# EAGLE library part 74HC4046AN,652 (library NXP_By_element14_Batch_1)
Phase-locked-loop with VCO
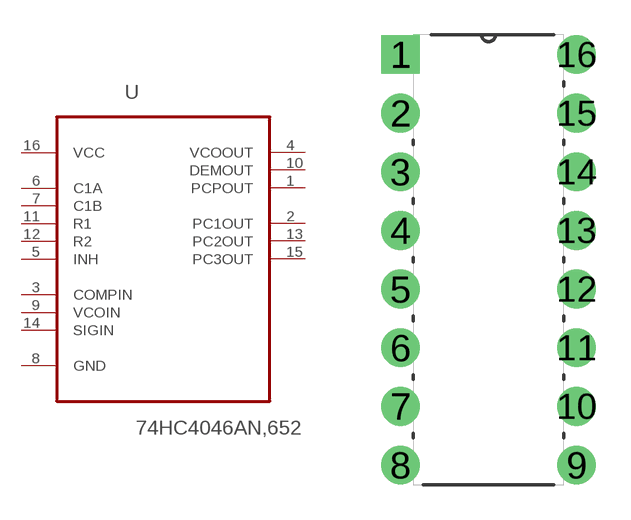
[diagram p94: symbol with the pads of DIP254P762X420-16; footprint DIP254P762X420-16]

Designator prefix U

## 74HC4046AN,652 (MPN: 74HC4046AN,652; OC_FARNELL: -;; OC_NEWARK: 71R2488';; P1I: o; PACKAGE: DIP-16; SUPPLIER: NXP)  [DIP254P762X420-16]
1  PCPOUT  out
2  PC1OUT  out
3  COMPIN  in
4  VCOOUT  out
5  INH  in
6  C1A  in
7  C1B  in
8  GND  pas
9  VCOIN  in
10  DEMOUT  out
11  R1  in
12  R2  in
13  PC2OUT  out
14  SIGIN  in
15  PC3OUT  out
16  VCC  pwr

## Footprint DIP254P762X420-16 (pad centres in mm)
drill 1.118 square: 1 -7.62,17.78
drill 1.118: 2 -7.62,15.24; 3 -7.62,12.7; 4 -7.62,10.16; 5 -7.62,7.62; 6 -7.62,5.08; 7 -7.62,2.54; 8 -7.62,0; 9 0,0; 10 0,2.54; 11 0,5.08; 12 0,7.62; 13 0,10.16; 14 0,12.7; 15 0,15.24; 16 0,17.78